# Altium schematic symbol library Electrocardiogram&Heart Rate-libsch.SchLib: 20 symbols
Pins are listed as number, name and electrical type; pins without a type are passive.

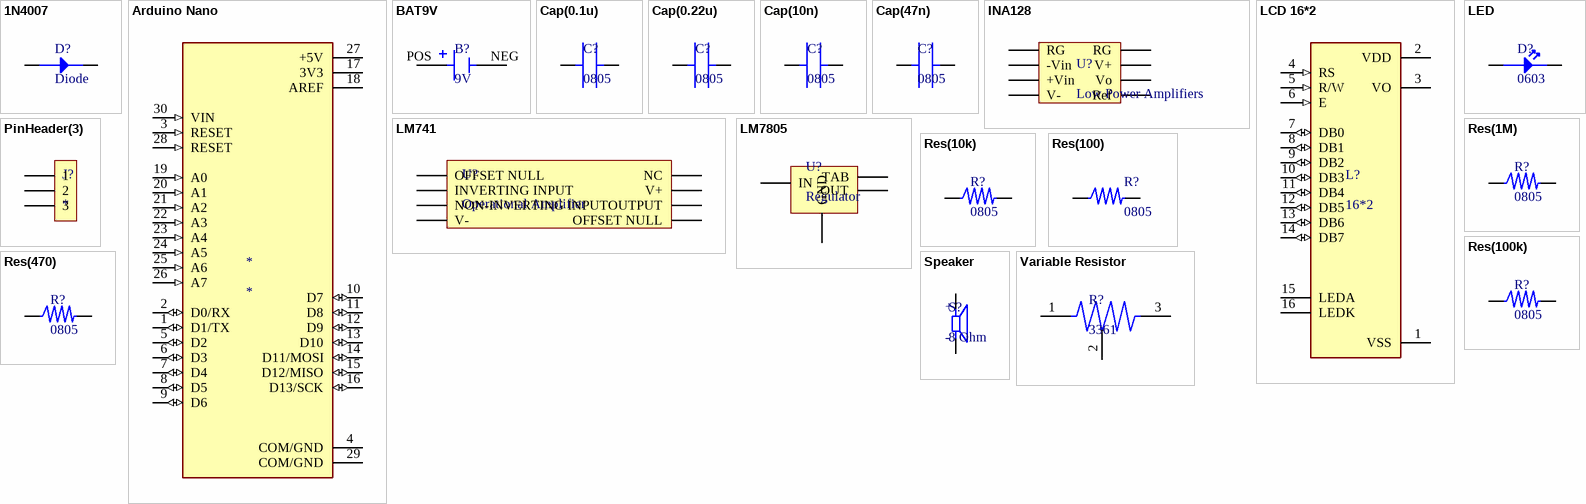
[diagram p0: symbols 1N4007 to Variable Resistor]

## 1N4007
designator D?, comment Diode
footprint Diode(SOD123)
pins: 1 Anode, 2 Cathode

## Arduino Nano
designator *
footprint Arduino Nano
pins: 1 D1/TX (io), 2 D0/RX (io), 3 RESET (in), 4 COM/GND (power), 5 D2 (io), 6 D3 (io), 7 D4 (io), 8 D5 (io), 9 D6 (io), 10 D7 (io), 11 D8 (io), 12 D9 (io), 13 D10 (io), 14 D11/MOSI (io), 15 D12/MISO (io), 16 D13/SCK (io), 17 3V3 (power), 18 AREF (power), 19 A0 (in), 20 A1 (in), 21 A2 (in), 22 A3 (in), 23 A4 (in), 24 A5 (in), 25 A6 (in), 26 A7 (in), 27 +5V (power), 28 RESET (in), 29 COM/GND (power), 30 VIN (in)

## BAT9V
designator B?, comment 9V
footprint BAT9V
pins: NEG, POS

## Cap(0.1u)
designator C?, comment 0805
footprint Cap(0805)
pins: 1, 2

## Cap(0.22u)
designator C?, comment 0805
footprint Cap(0805)
pins: 1, 2

## Cap(10n)
designator C?, comment 0805
footprint Cap(0805)
pins: 1, 2

## Cap(47n)
designator C?, comment 0805
footprint Cap(0805)
pins: 1, 2

## INA128
designator U?, comment Low Power Amplifiers
footprint SOIC(8pin)
pins: 1 RG, 2 -Vin, 3 +Vin, 4 V-, 5 Ref, 6 Vo, 7 V+, 8 RG

## LCD 16*2
designator L?, comment 16*2
footprint LCD 16*2
pins: 1 VSS (power), 2 VDD (power), 3 VO, 4 RS (in), 5 R/W (in), 6 E (in), 7 DB0 (io), 8 DB1 (io), 9 DB2 (io), 10 DB3 (io), 11 DB4 (io), 12 DB5 (io), 13 DB6 (io), 14 DB7 (io), 15 LEDA, 16 LEDK

## LED
designator D?, comment 0603
footprint LED(0603)
pins: 1 Anode, 2 Cathode

## LM741
designator U?, comment Operational Amplifier
footprint LM741(SOIC)
pins: 1 OFFSET NULL, 2 INVERTING INPUT, 3 NON-INVERTING INPUT, 4 V-, 5 OFFSET NULL, 6 OUTPUT, 7 V+, 8 NC

## LM7805
designator U?, comment Regulator
footprint lm7805(SOT223)
pins: 1 IN, 2 GND, 3 OUT, 4 TAB

## PinHeader(3)
designator J?
footprint PinHeader
pins: 1, 2, 3

## Res(1M)
designator R?, comment 0805
footprint Res(0805)
pins: 1, 2

## Res(10k)
designator R?, comment 0805
footprint Res(0805)
pins: 1, 2

## Res(100)
designator R?, comment 0805
footprint Res(0805)
pins: 1, 2

## Res(100k)
designator R?, comment 0805
footprint Res(0805)
pins: 1, 2

## Res(470)
designator R?, comment 0805
footprint Res(0805)
pins: 1, 2

## Speaker
designator S?, comment 8 Ohm
footprint Speaker
pins: N, P
text: +; -

## Variable Resistor
designator R?, comment 3361
footprint VaribleRes(3361)
pins: 1, 2, 3